# EAGLE library part LSM330DLC (library mike-temp)
iNEMO intertial module: 3D accelerometer and 3D gyroscope Analog supply voltage: 2.4 V to 3.6 V Digital supply voltage IOs: 1.8 V Low power mode Power-down mode 3 independent acceleration channels and 3 angular rate channels ±2 g/±4 g/±8 g/±16 g dynamically selectable full scale ±250/±500/±2000 dps dynamically selectable full scale SPI/I2C serial interface (16-bit data output) Programmable interrupt generator for free-fall and motion detection
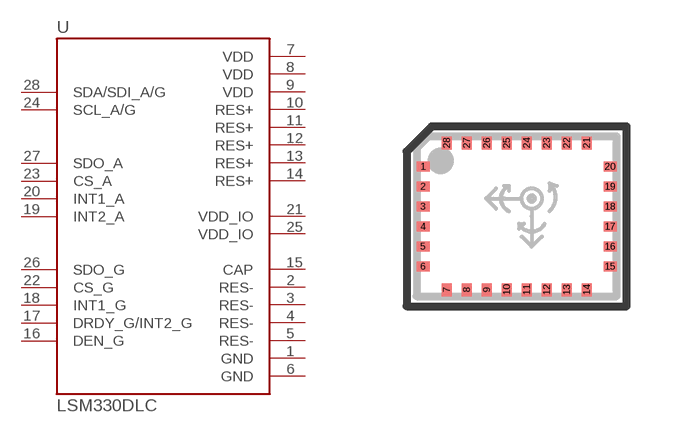
[diagram p32: symbol with the pads of LGA-28; footprint LGA-28]

Designator prefix U

## LSM330DLC  [LGA-28]
1  GND  pwr
2  RES-  pwr
3  RES-  pwr
4  RES-  pwr
5  RES-  pwr
6  GND  pwr
7  VDD  pwr
8  VDD  pwr
9  VDD  pwr
10  RES+  pwr
11  RES+  pwr
12  RES+  pwr
13  RES+  pwr
14  RES+  pwr
15  CAP  pwr
16  DEN_G  in
17  DRDY_G/INT2_G  out
18  INT1_G  out
19  INT2_A  out
20  INT1_A  out
21  VDD_IO  pwr
22  CS_G  in
23  CS_A  in
24  SCL_A/G  in
25  VDD_IO  pwr
26  SDO_G
27  SDO_A
28  SDA/SDI_A/G

## Footprint LGA-28 (pad centres in mm)
smd 0.325 x 0.25: 1 -2.337,1.25; 2 -2.337,0.75; 3 -2.337,0.25; 4 -2.337,-0.25; 5 -2.337,-0.75; 6 -2.337,-1.25; 15 2.337,-1.25; 16 2.337,-0.75; 17 2.337,-0.25; 18 2.337,0.25; 19 2.337,0.75; 20 2.337,1.25
smd 0.25 x 0.325: 7 -1.75,-1.837; 8 -1.25,-1.837; 9 -0.75,-1.837; 10 -0.25,-1.837; 11 0.25,-1.837; 12 0.75,-1.837; 13 1.25,-1.837; 14 1.75,-1.837; 21 1.75,1.837; 22 1.25,1.837; 23 0.75,1.837; 24 0.25,1.837; 25 -0.25,1.837; 26 -0.75,1.837; 27 -1.25,1.837; 28 -1.75,1.837